# EAGLE library part LM74700-Q1 (library BW-Active)
Ideal diode controller
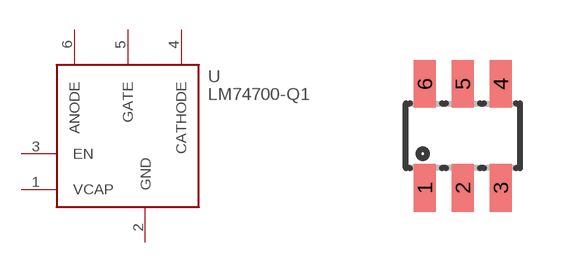
[diagram p22: symbol with the pads of SOT23-6L; footprint SOT23-6L]

Designator prefix U

## LM74700-Q1  [SOT23-6L]
1  VCAP
2  GND
3  EN
4  CATHODE
5  GATE
6  ANODE

## Footprint SOT23-6L (pad centres in mm)
Small Outline Transistor
smd 0.55 x 1.2: 1 -0.95,-1.3; 2 0,-1.3; 3 0.95,-1.3; 4 0.95,1.3; 5 0,1.3; 6 -0.95,1.3